# EAGLE library part MCP7940N (library PNP)
Real time clock
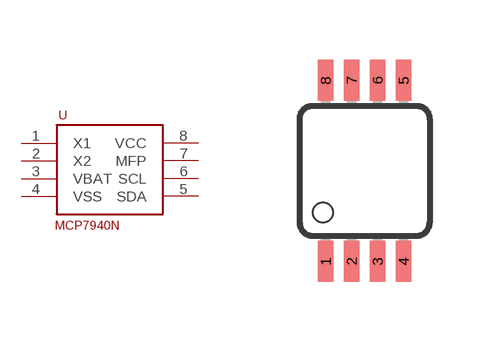
[diagram p14: symbol with the pads of MSOP08; footprint MSOP08]

Designator prefix -

## MCP7940N  [MSOP08]
1  X1  pas
2  X2  pas
3  VBAT  pwr
4  VSS  pwr
5  SDA
6  SCL
7  MFP
8  VCC  pwr

## Footprint MSOP08 (pad centres in mm)
8-Lead micro SO (RM-8) Source: http://www.analog.com/UploadedFiles/Data_Sheets/703465986AD8611_2_0.pdf
smd 0.381 x 1.016: 1 -0.976,-2.263; 2 -0.326,-2.263; 3 0.324,-2.263; 4 0.974,-2.263; 5 0.974,2.262; 6 0.324,2.262; 7 -0.326,2.262; 8 -0.976,2.262